# EAGLE library part MC33368DG (library ON Semiconductor_By_element14_Batch_1)
High Voltage GreenLinet Power Factor Controller
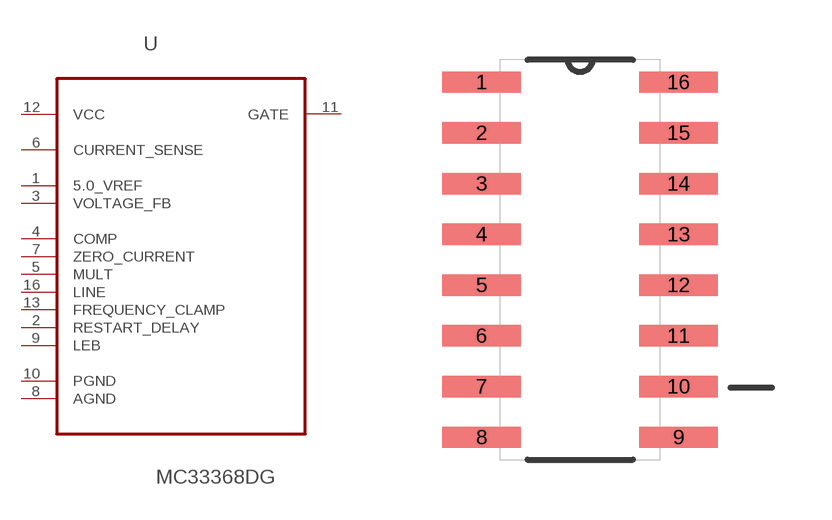
[diagram p381: symbol with the pads of SOIC127P600X175-16N; footprint SOIC127P600X175-16N]

Designator prefix U

## MC33368DG (MPN: MC33368DG; OC_FARNELL: 1468740; OC_NEWARK: 42K0627; P1I: o; PACKAGE: SOIC-16; SUPPLIER: ON SEMICONDUCTOR)  [SOIC127P600X175-16N]
1  5.0_VREF  pwr
2  RESTART_DELAY  in
3  VOLTAGE_FB  pwr
4  COMP  in
5  MULT  in
6  CURRENT_SENSE  in
7  ZERO_CURRENT  in
8  AGND  pas
9  LEB  in
10  PGND  pas
11  GATE  out
12  VCC  pwr
13  FREQUENCY_CLAMP  in
16  LINE  in

## Footprint SOIC127P600X175-16N (pad centres in mm)
smd 1.956 x 0.533: 1 -2.464,4.445; 2 -2.464,3.175; 3 -2.464,1.905; 4 -2.464,0.635; 5 -2.464,-0.635; 6 -2.464,-1.905; 7 -2.464,-3.175; 8 -2.464,-4.445; 9 2.464,-4.445; 10 2.464,-3.175; 11 2.464,-1.905; 12 2.464,-0.635; 13 2.464,0.635; 14 2.464,1.905; 15 2.464,3.175; 16 2.464,4.445